# EAGLE library part MINIDIN_6K (library 000001)
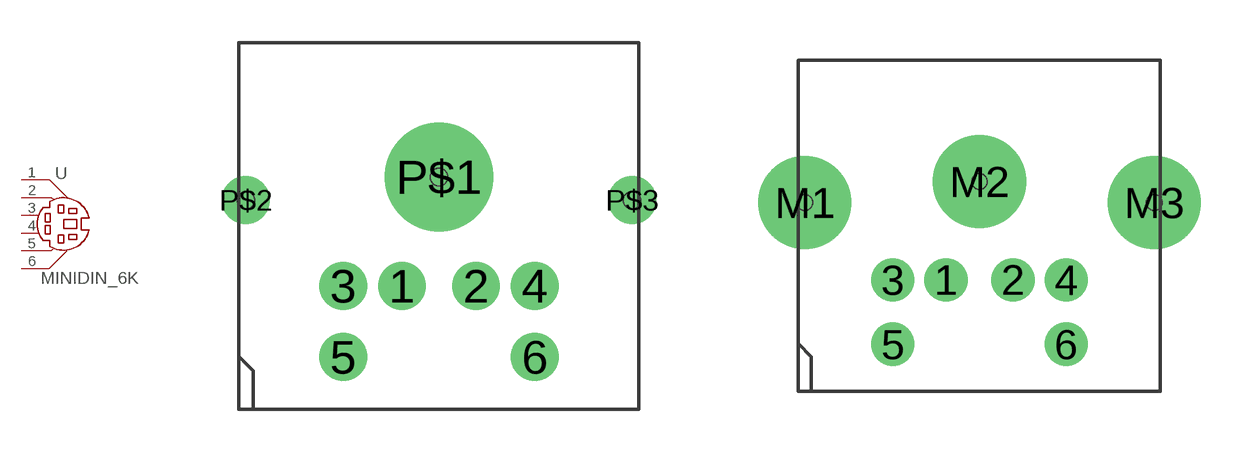
[diagram p99: symbol with the pads of MDIN6K; footprints MDIN6K, MDIN6K-PCB]

Designator prefix -

## MINIDIN_6K  [MDIN6K]
1  1  pas
2  2  pas
3  3  pas
4  4  pas
5  5  pas
6  6  pas

## MINIDIN_6KPCB  [MDIN6K-PCB]
Pads as for MDIN6K

## Footprint MDIN6K (pad centres in mm)
drill 0.5 pad 1.676 round: 1 -1.295,-3.81; 2 1.295,-3.81; 3 -3.353,-3.81; 4 3.353,-3.81; 5 -3.353,-6.299; 6 3.353,-6.299; P$2 -6.756,-0.813; P$3 6.756,-0.813
drill 0.5 pad 3.81 round: P$1 0,0
hole 0.6 at 0,0
hole 0.6 at 6.756,-0.813
hole 0.6 at -6.756,-0.813

## Footprint MDIN6K-PCB (pad centres in mm)
drill 0.9 pad 1.676 round: 1 -1.295,-3.81; 2 1.295,-3.81; 3 -3.353,-3.81; 4 3.353,-3.81; 5 -3.353,-6.299; 6 3.353,-6.299
drill 2.2 pad 3.6 round: M1 -6.756,-0.813; M2 0,0; M3 6.756,-0.813
hole 0.6 at 0,0
hole 0.6 at 6.756,-0.813
hole 0.6 at -6.756,-0.813